# Altium schematic symbol library KB-E8H7.SchLib: 1 symbol
Pins are listed as number, name and electrical type; pins without a type are passive.

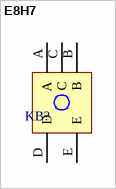
[diagram p0: symbol E8H7]

## E8H7
designator KB?
pins: A, B, C, D, E